# EAGLE library part MAX30102 (library Eric Navarrete Custom Parts Feb 2019)
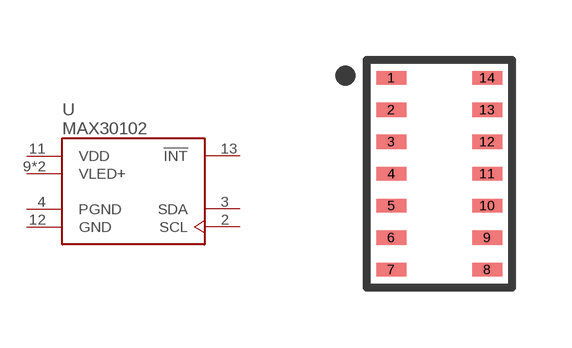
[diagram p37: symbol with the pads of MAX30102; footprint MAX30102]

Designator prefix -

## MAX30102  [MAX30102]
2  SCL  in
3  SDA
4  PGND  pwr
9  VLED+  pwr
10  VLED+  pwr
11  VDD  pwr
12  GND  pwr
13  !INT  out

## Footprint MAX30102 (pad centres in mm)
smd 0.75 x 0.35: 1 -1.2,2.4; 2 -1.2,1.6; 3 -1.2,0.8; 4 -1.2,0; 5 -1.2,-0.8; 6 -1.2,-1.6; 7 -1.2,-2.4; 8 1.2,-2.4; 9 1.2,-1.6; 10 1.2,-0.8; 11 1.2,0; 12 1.2,0.8; 13 1.2,1.6; 14 1.2,2.4